# Altium schematic symbol library lianchen_lib.SchLib: 49 symbols
Pins are listed as number, name and electrical type; pins without a type are passive.

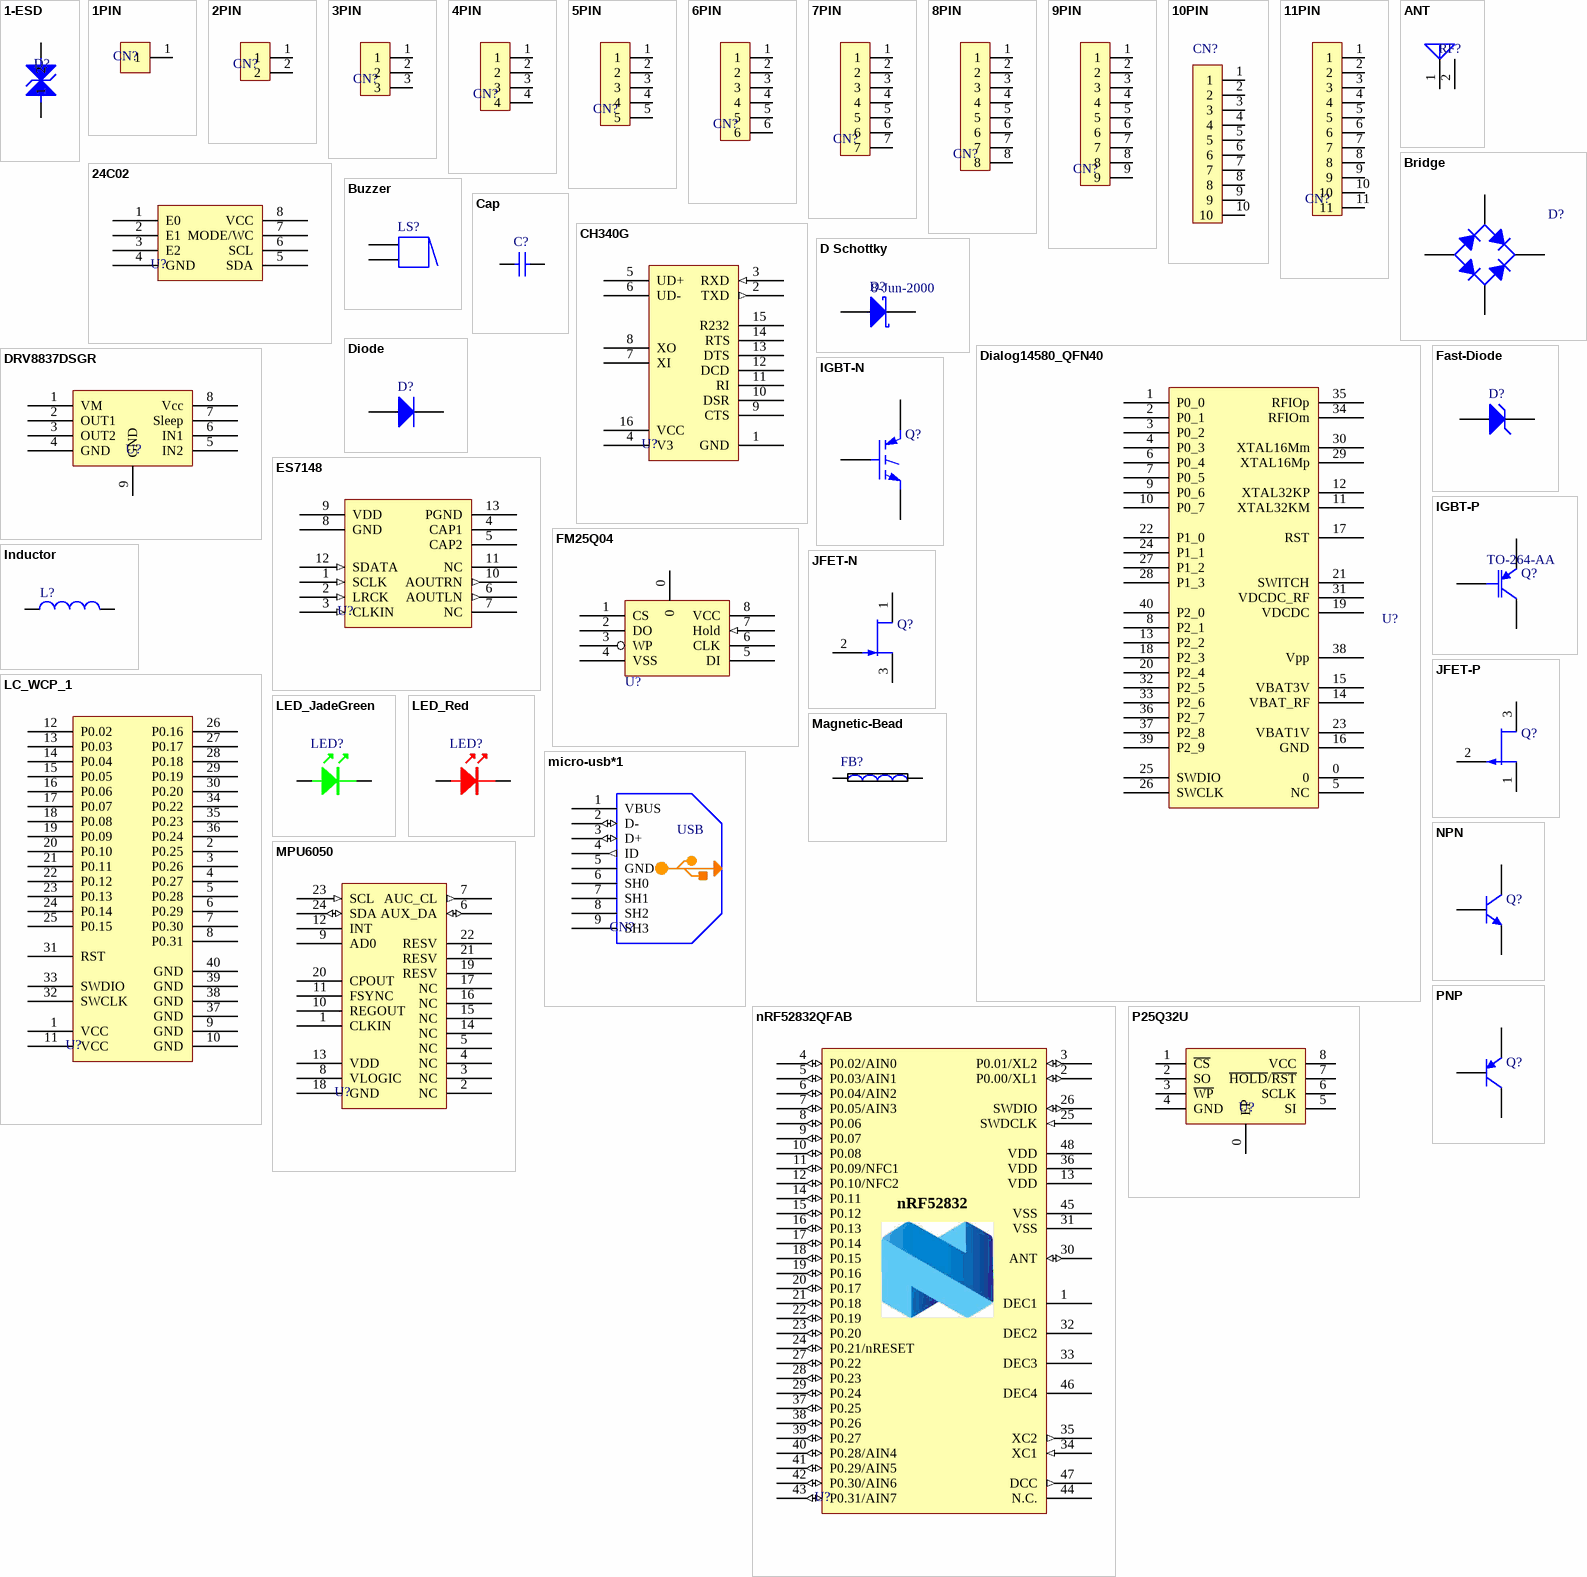
[diagram p0: symbols 1-ESD to PNP]

## 1-ESD
designator D?
ESD,single
pins: 1, 2

## 1PIN
designator CN?
pin
pins: 1

## 2PIN
designator CN?
pin
pins: 1, 2

## 3PIN
designator CN?
pin
pins: 1, 2, 3

## 4PIN
designator CN?
pin
pins: 1, 2, 3, 4

## 5PIN
designator CN?
pin
pins: 1, 2, 3, 4, 5

## 6PIN
designator CN?
pin
pins: 1, 2, 3, 4, 5, 6

## 7PIN
designator CN?
pin
pins: 1, 2, 3, 4, 5, 6, 7

## 8PIN
designator CN?
pin
pins: 1, 2, 3, 4, 5, 6, 7, 8

## 9PIN
designator CN?
pin
pins: 1, 2, 3, 4, 5, 6, 7, 8, 9

## 10PIN
designator CN?
pin
pins: 1, 2, 3, 4, 5, 6, 7, 8, 9, 10

## 11PIN
designator CN?
pin
pins: 1, 2, 3, 4, 5, 6, 7, 8, 9, 10, 11

## 24C02
designator U?
EEPROM
pins: 1 E0, 2 E1, 3 E2, 4 GND (oe), 5 SDA, 6 SCL, 7 MODE/WC, 8 VCC

## ANT
designator RF?
Generic Antenna
pins: 1 A, 2 A

## Bridge
designator D?
Full Wave Diode Bridge
pins: 1 A, 2 C, 3 K, 4 C

## Buzzer
designator LS?
Magnetic Transducer Buzzer; Published: 24-Mar-1999; LatestRevisionDate: 17-Dec-2003; LatestRevisionNote: Schematic revised, PCB Footprint replaced.; DatasheetDocument: 17-Dec-2003; PackageReference: ABSM-1574; Publisher: Altium Limited; ComponentLink1Description: Manufacturer Link; ComponentLink1URL: http://www.megastar.com/linecard/buzzmode/index.php
footprint ABSM-1574 (Magnetic Transducer Buzzer)
pins: 1, 1A, 2, 2A
1 alternate drawing of the same symbol

## Cap
designator C?
Capacitor
pins: 1, 2

## CH340G
designator U?
uart to usb
pins: 1 GND, 2 TXD (out), 3 RXD (in), 4 V3, 5 UD+, 6 UD-, 7 XI, 8 XO, 9 CTS, 10 DSR, 11 RI, 12 DCD, 13 DTS, 14 RTS, 15 R232, 16 VCC

## D Schottky
designator D?, comment 8-Jun-2000
Schottky Diode; Value: 8-Jun-2000
pins: 1 A, 2 K

## Dialog14580_QFN40
designator U?
BT-MCU
pins: 0 (oe), 1 P0_0, 2 P0_1, 3 P0_2, 4 P0_3, 5 NC, 6 P0_4, 7 P0_5, 8 P2_1, 9 P0_6, 10 P0_7, 11 XTAL32KM, 12 XTAL32KP, 13 P2_2, 14 VBAT_RF, 15 VBAT3V, 16 GND, 17 RST, 18 P2_3, 19 VDCDC, 20 P2_4, 21 SWITCH, 22 P1_0, 23 VBAT1V, 24 P1_1, 25 SWDIO, 26 SWCLK, 27 P1_2, 28 P1_3, 29 XTAL16Mp, 30 XTAL16Mm, 31 VDCDC_RF, 32 P2_5, 33 P2_6, 34 RFIOm, 35 RFIOp, 36 P2_7, 37 P2_8, 38 Vpp, 39 P2_9, 40 P2_0

## Diode
designator D?
General Purpose Rectifier
pins: 1 A, 2 K

## DRV8837DSGR
designator U?
motor driver
pins: 1 VM, 2 OUT1, 3 OUT2, 4 GND, 5 IN2, 6 IN1, 7 Sleep, 8 Vcc, 9 GND

## ES7148
designator U?
audio DAC
pins: 1 SCLK (in), 2 LRCK (in), 3 CLKIN (in), 4 CAP1, 5 CAP2, 6 AOUTLN (out), 7 NC, 8 GND, 9 VDD, 10 AOUTRN (out), 11 NC, 12 SDATA (in), 13 PGND

## Fast-Diode
designator D?
Zener Diode
pins: 1 A, 2 K

## FM25Q04
designator U?
norFlash
pins: 0 (oe), 1 CS, 2 DO, 3 WP (oe), 4 VSS (oe), 5 DI (oe), 6 CLK (oe), 7 Hold (in), 8 VCC (power)

## IGBT-N
designator Q?
Insulated Gate Bipolar Transistor (N-Channel)
pins: 1 G, 2 C, 3 E

## IGBT-P
designator Q?, comment TO-264-AA
PNP Bipolar Junction Transistor; Value: TO-264-AA
pins: 1 C, 2 G, 3 E

## Inductor
designator L?
Inductor
pins: 1, 2

## JFET-N
designator Q?
N-Channel JFET
pins: 1 D, 2 G, 3 S

## JFET-P
designator Q?
P-Channel JFET
pins: 1 D, 2 G, 3 S

## LC_WCP_1
designator U?
LC_WCP_1, V0.90
pins: 1 VCC, 2 P0.25, 3 P0.26, 4 P0.27, 5 P0.28, 6 P0.29, 7 P0.30, 8 P0.31, 9 GND, 10 GND, 11 VCC, 12 P0.02, 13 P0.03, 14 P0.04, 15 P0.05, 16 P0.06, 17 P0.07, 18 P0.08, 19 P0.09, 20 P0.10, 21 P0.11, 22 P0.12, 23 P0.13, 24 P0.14, 25 P0.15, 26 P0.16, 27 P0.17, 28 P0.18, 29 P0.19, 30 P0.20, 31 RST, 32 SWCLK, 33 SWDIO, 34 P0.22, 35 P0.23, 36 P0.24, 37 GND, 38 GND, 39 GND, 40 GND

## LED_JadeGreen
designator LED?
Typical INFRARED GaAs LED
pins: 1, 2

## LED_Red
designator LED?
Typical INFRARED GaAs LED
pins: 1, 2

## Magnetic-Bead
designator FB?
magnetic bead
pins: 1, 2

## micro-usb*1
designator CN?
mini USB
pins: 1 VBUS, 2 D- (io), 3 D+ (io), 4 ID (out), 5 GND, 6 SH0, 7 SH1, 8 SH2, 9 SH3
text: USB

## MPU6050
designator U?
multi-axis motion sensor
pins: 1 CLKIN, 2 NC, 3 NC (oe), 4 NC (oe), 5 NC (oe), 6 AUX_DA (io), 7 AUC_CL (out), 8 VLOGIC, 9 AD0, 10 REGOUT, 11 FSYNC, 12 INT, 13 VDD, 14 NC, 15 NC, 16 NC, 17 NC, 18 GND, 19 RESV, 20 CPOUT, 21 RESV, 22 RESV, 23 SCL (in), 24 SDA (io)

## NPN
designator Q?
NPN Bipolar Transistor
pins: 1 C, 2 B, 3 E

## nRF52832QFAB
designator U?
nRF52832-QFAB,QFN48,6×6mm,32KB RAM,256KB Flash
pins: 1 DEC1 (power), 2 P0.00/XL1 (io), 3 P0.01/XL2 (io), 4 P0.02/AIN0 (io), 5 P0.03/AIN1 (io), 6 P0.04/AIN2 (io), 7 P0.05/AIN3 (io), 8 P0.06 (io), 9 P0.07 (io), 10 P0.08 (io), 11 P0.09/NFC1 (io), 12 P0.10/NFC2 (io), 13 VDD, 14 P0.11 (io), 15 P0.12 (io), 16 P0.13 (io), 17 P0.14 (io), 18 P0.15 (io), 19 P0.16 (io), 20 P0.17 (io), 21 P0.18 (io), 22 P0.19 (io), 23 P0.20 (io), 24 P0.21/nRESET (io), 25 SWDCLK (in), 26 SWDIO (io), 27 P0.22 (io), 28 P0.23 (io), 29 P0.24 (io), 30 ANT (io), 31 VSS (power), 32 DEC2 (power), 33 DEC3 (power), 34 XC1 (in), 35 XC2 (out), 36 VDD, 37 P0.25 (io), 38 P0.26 (io), 39 P0.27 (io), 40 P0.28/AIN4 (io), 41 P0.29/AIN5 (io), 42 P0.30/AIN6 (io), 43 P0.31/AIN7 (io), 44 N.C. (power), 45 VSS (power), 46 DEC4 (power), 47 DCC (out), 48 VDD
text: nRF52832

## P25Q32U
designator U?
norFlash
pins: 0 EP, 1 ~{CS}, 2 SO, 3 ~{WP}, 4 GND, 5 SI, 6 SCLK, 7 ~{HOLD}/~{RST}, 8 VCC

## PNP
designator Q?
PNP Bipolar Transistor
pins: 1 C, 2 B, 3 E

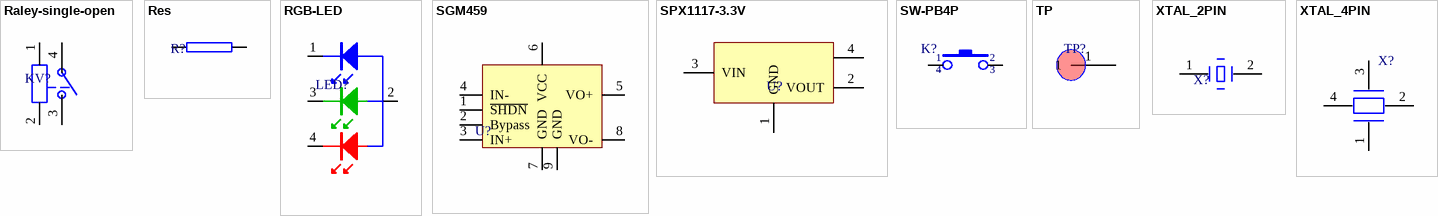
[diagram p1: symbols Raley-single-open to XTAL_4PIN]

## Raley-single-open
designator KV?
一组常开
pins: 1, 2, 3, 4

## Res
designator R?
Resistor
pins: 1, 2

## RGB-LED
designator LED?
reg led
pins: 1, 2, 3, 4

## SGM459
designator U?
audio amp
pins: 1 ~{SHDN}, 2 Bypass, 3 IN+, 4 IN-, 5 VO+, 6 VCC, 7 GND, 8 VO-, 9 GND

## SPX1117-3.3V
designator U?
ldo
pins: 1 GND, 2 VOUT, 3 VIN, 4

## SW-PB4P
designator K?
key,4pin
pins: 1, 2, 3, 4

## TP
designator TP?
test point
pins: 1

## XTAL_2PIN
designator X?
xtal
pins: 1, 2

## XTAL_4PIN
designator X?
xtal
pins: 1, 2, 3, 4